# Altium schematic symbol library Diodes.SchLib: 19 symbols (part 1 of 2)
Pins are listed as number, name and electrical type; pins without a type are passive.

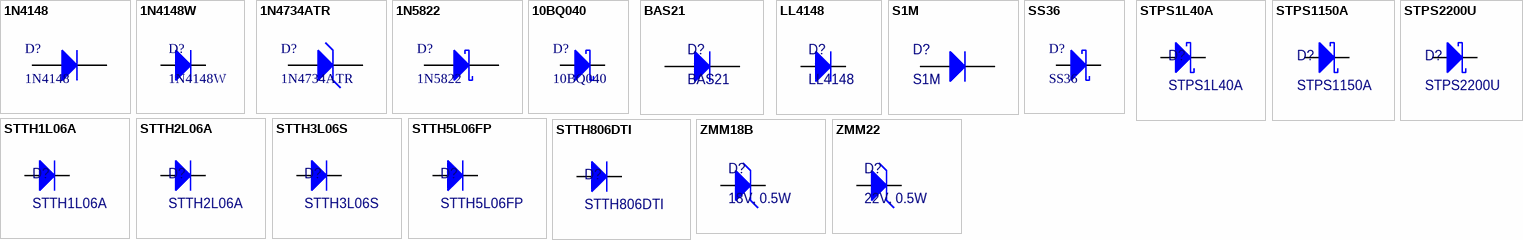
[diagram p0: symbols 1N4148 to ZMM22]

## 1N4148
designator D?
SMALL SGNL DIODE DO35 100V 175C; Manufacturer: ON Semiconductor / Fairchild; Diode Element Material: SILICON; Diode Type: RECTIFIER; Forward Voltage: 1V; Non-rep Pk Forward Current-Max: 2A; Number of Elements: 1; Max Output current: 200mA; Reverse Recovery Time-Max: 0.004us; Surface Mount: No; Case Connection: Isolated; Max Power Dissipation: 500mW; JEDEC-95 Code: DO-35; Qualification Status: Not Qualified; Supplier: Digikey; Supplier Part Number: 1N4148FS-ND; Manufacturer Part Number: 1N4148; RoHS: Yes; Category: Rectifier Diodes; Stock: 182200; Pricing: 1=0.1, 10=0.057, 100=0.0306, 500=0.024, 1000=0.01666, 2000=0.01381, 5000=0.01305, 10000=0.01111, 50000=0.00889 (USD); Pins: 2; Package Shape: Round; Max Operating Temperature: 175°C; Rep Pk Reverse Voltage-Max: 100V; JESD-30 Code: O-XALF-W2; Package Style: LONG FORMMeter; Terminal Form: Wire; Terminal Position: AXIAL; Reach SVHC Compliant: Yes; RoHS Compliant: Yes; ComponentLink1URL: https://datasheet.ciiva.com:443/pdfs/VipMasterIC/IC/ONSM/ONSM-S-A0003590094/ONSM-S-A0003539415-1.pdf?src-supplier=IHS+Markit; ComponentLink1Description: https://datasheet.ciiva.com:443/pdfs/VipMasterIC/IC/ONSM/ONSM-S-A0003590094/ONSM-S-A0003539415-1.pdf?src-supplier=IHS+Markit; ComponentLink2URL: https://datasheet.ciiva.com/27049/743285-27049708.pdf?src-supplier=Jameco; ComponentLink2Description: https://datasheet.ciiva.com/27049/743285-27049708.pdf?src-supplier=Jameco
footprint 1N4148
pins: 1 K, 2 A

## 1N4148W
designator D?
DIODE GEN PURP 75V 250MA SOD123; Manufacturer: Sangdest Microelectronics; Supplier: Digikey; Supplier Part Number: 1655-1N4148WCT-ND; Manufacturer Part Number: 1N4148W; RoHS: No; Category: LDO; Stock: 181231; Pricing: 1=0.13, 10=0.077, 100=0.0474, 500=0.0342, 1000=0.0299 (USD)
footprint SOD-123
pins: 1 K, 2 A

## 1N4734ATR
designator D?
DIODE ZENER 5.6V 1W DO41; Manufacturer: ON Semiconductor / Fairchild; Diode Element Material: SILICON; Package Body Material: Glass; Polarity: Unidirectional; Case Connection: Isolated; Dynamic Impedance-Max: 5R; Number of Elements: 1; Surface Mount: No; Voltage Tol-Max: 5%; Test Current: 45mA; JEDEC-95 Code: DO-41; Qualification Status: Not Qualified; Supplier: Digikey; Supplier Part Number: 1N4734AFSCT-ND; Manufacturer Part Number: 1N4734ATR; RoHS: Yes; Category: Zener Diodes; Stock: 18282; Pricing: 1=0.24, 10=0.145, 100=0.0902, 500=0.06612, 1000=0.05831 (USD); Pins: 2; Package Shape: Round; Min Operating Temperature: -65°C; Max Operating Temperature: 200°C; Diode Type: ZENER; JESD-30 Code: O-LALF-W2; Package Style: LONG FORMMeter; Max Power Dissipation: 1W; Reference Voltage-Nom: 5.6V; Technology: ZENER; Terminal Form: Wire; Terminal Position: AXIAL; Reach SVHC Compliant: Yes; RoHS Compliant: Yes; ComponentLink1URL: https://datasheet.ciiva.com:443/pdfs/VipMasterIC/IC/FAIR/FAIRS30206/FAIRS30206-1.pdf?src-supplier=IHS+Markit; ComponentLink1Description: https://datasheet.ciiva.com:443/pdfs/VipMasterIC/IC/FAIR/FAIRS30206/FAIRS30206-1.pdf?src-supplier=IHS+Markit; ComponentLink2URL: https://datasheet.ciiva.com/15142/getdatasheetpartid-70054-15142360.pdf?src-supplier=Verical; ComponentLink2Description: https://datasheet.ciiva.com/15142/getdatasheetpartid-70054-15142360.pdf?src-supplier=Verical; ComponentLink3URL: https://datasheet.ciiva.com/889/1n4731a-889224.pdf?src-supplier=Digikey; ComponentLink3Description: https://datasheet.ciiva.com/889/1n4731a-889224.pdf?src-supplier=Digikey; ComponentLink4URL: https://datasheet.ciiva.com/889/1n4731a-889225.pdf?src-supplier=Digikey; ComponentLink4Description: https://datasheet.ciiva.com/889/1n4731a-889225.pdf?src-supplier=Digikey; ComponentLink5URL: https://datasheet.ciiva.com/46425/1482758-46425861.pdf?src-supplier=Element14; ComponentLink5Description: https://datasheet.ciiva.com/46425/1482758-46425861.pdf?src-supplier=Element14; ComponentLink6URL: https://datasheet.ciiva.com/8084/1n4730a-8084123.pdf?src-supplier=Avnet; ComponentLink6Description: https://datasheet.ciiva.com/8084/1n4730a-8084123.pdf?src-supplier=Avnet
footprint DO-41
pins: 1 K, 2 A

## 1N5822
designator D?
DIODE SCHOTTKY 40V 3A DO201AD; Manufacturer: STMicroelectronics; Diode Element Material: SILICON; Package Body Material: Plastic; Additional Feature: FREE WHEELING DIODE; Application(s): POWER; Case Connection: Isolated; Diode Type: RECTIFIER; Forward Voltage: 950mV; Non-rep Pk Forward Current-Max: 80A; Number of Elements: 1; Surface Mount: No; JEDEC-95 Code: DO-201AD; Qualification Status: Not Qualified; Supplier: Digikey; Supplier Part Number: 497-11370-1-ND; Manufacturer Part Number: 1N5822; RoHS: Yes; Category: Rectifier Diodes; Stock: 380; Pricing: 1=0.42, 10=0.328, 100=0.1969 (USD); Pins: 2; Package Shape: Round; Terminal Finish: Tin; Max Operating Temperature: 150°C; JESD-609 Code: e3; JESD-30 Code: O-PALF-W2; Number of Phases: 1; Max Output current: 3A; Package Style: LONG FORMMeter; Rep Pk Reverse Voltage-Max: 40V; Technology: SCHOTTKY; Terminal Form: Wire; Terminal Position: AXIAL; RoHS Compliant: Yes; Reach SVHC Compliant: No; ComponentLink1URL: https://datasheet.ciiva.com:443/pdfs/VipMasterIC/IC/SGST/SGSTS14204/SGSTS14204-1.pdf?src-supplier=IHS+Markit; ComponentLink1Description: https://datasheet.ciiva.com:443/pdfs/VipMasterIC/IC/SGST/SGSTS14204/SGSTS14204-1.pdf?src-supplier=IHS+Markit; ComponentLink2URL: https://datasheet.ciiva.com/1177/1689683-1177129.pdf?src-supplier=Element14; ComponentLink2Description: https://datasheet.ciiva.com/1177/1689683-1177129.pdf?src-supplier=Element14; ComponentLink3URL: https://datasheet.ciiva.com/26339/168275-da-01-en-schottky-barrier-rectif-axial-1n5822-26339005.pdf?src-supplier=Conrad; ComponentLink3Description: https://datasheet.ciiva.com/26339/168275-da-01-en-schottky-barrier-rectif-axial-1n5822-26339005.pdf?src-supplier=Conrad; ComponentLink4URL: https://datasheet.ciiva.com/916/cd00001626-916050.pdf?src-supplier=Digikey; ComponentLink4Description: https://datasheet.ciiva.com/916/cd00001626-916050.pdf?src-supplier=Digikey; ComponentLink5URL: https://datasheet.ciiva.com/916/cd00001626-916051.pdf?src-supplier=Digikey; ComponentLink5Description: https://datasheet.ciiva.com/916/cd00001626-916051.pdf?src-supplier=Digikey; ComponentLink6URL: https://datasheet.ciiva.com/16303/cd00001626-16303311.pdf?src-supplier=Future+Electronics; ComponentLink6Description: https://datasheet.ciiva.com/16303/cd00001626-16303311.pdf?src-supplier=Future+Electronics
footprint DO-201AD_STM
pins: 1 K, 2 A

## 10BQ040
designator D?
DIODE SCHOTTKY 40V 1A SMB; Manufacturer: Sangdest Microelectronics; Supplier: Digikey; Supplier Part Number: 1655-10BQ040CT-ND; Manufacturer Part Number: 10BQ040; RoHS: No; Stock: 75601; Pricing: 1=0.33, 10=0.203, 100=0.1274, 500=0.09426, 1000=0.08355 (USD)
footprint DO-214AA-SMB
pins: 1 K, 2 A

## BAS21
designator D?
DIODE STANDARD 200V 200MA SOT233; Manufacturer: Sangdest Microelectronics; Max Power Dissipation: 350mW; Number of Elements: 1; Reverse Recovery Time: 50ns; Supplier: DigiKey; Supplier Part Number: 1655-BAS21CT-ND; Manufacturer Part Number: BAS21; RoHS: Compliant; Category: Rectifier Diodes; Stock: 142559; Pricing: 1=0.21, 10=0.125, 100=0.0776, 500=0.05666, 1000=0.04986 (USD); Country of Origin: Mainland China; Export Control Classification Number (ECCN) Code: EAR99; Harmonized Tariff Schedule (HTS) Code: 8541.10.00.70; Introduction Date: 2003-01-16; Lifecycle Status: Production; Max Output current: 200mA; Number of Terminals: 3; REACH SVHC: Yes; Reverse Standoff Voltage: 200V; ComponentLink1URL: https://datasheet.octopart.com:443/BAS21-SMC-Diode-Solutions-datasheet-145014974.pdf?src-supplier=IHS; ComponentLink1Description: https://datasheet.octopart.com:443/BAS21-SMC-Diode-Solutions-datasheet-145014974.pdf?src-supplier=IHS
footprint SOT-23-3
pins: 1 A, 3 K

## LL4148
designator D?
DIODE STANDARD 100V 200MA SOD80; Manufacturer: onsemi; Manufacturer Lifecycle Status: ACTIVE; Body Material: Glass; Current: 2A; Element Configuration: Single; Forward Voltage: 1V; Max Power Dissipation: 500mW; Number of Elements: 1; Peak Reverse Current: 25nA; Recovery Time: 4ns; Supplier: DigiKey; Supplier Part Number: LL4148FSCT-ND; Manufacturer Part Number: LL4148; RoHS: Compliant; Category: Rectifier Diodes; Stock: 985538; Pricing: 1=0.1, 10=0.05, 100=0.0426, 500=0.0307, 1000=0.02682 (USD); Average Rectified Current: 200mA; China RoHS: Non-Compliant; Contact Plating: Tin; Country of Origin: Mainland China; Export Control Classification Number (ECCN) Code: EAR99; Forward Current: 200mA; Height: 1.5mm; Harmonized Tariff Schedule (HTS) Code: 8541.10.00.70; Introduction Date: 2006-01-13; Lead Free: Lead Free; Length: 3.6mm; Lifecycle Status: Production; Max Forward Surge Current (Ifsm): 2A; Max Operating Temperature: 175°C; Max Output current: 200mA; Max Repetitive Reverse Voltage (Vrrm): 100V; Max Reverse Voltage (DC): 100V; Max Surge Current: 2A; Min Operating Temperature: -55°C; Mounting Technology: Surface Mount; Pins: 2; Number of Terminals: 2; Packaging: Cut Tape; Peak Non-Repetitive Surge Current: 2A; Power Dissipation: 500mW; Radiation Hardening: No; REACH SVHC: Yes; Reverse Recovery Time: 4ns; Reverse Standoff Voltage: 100V; Reverse Voltage: 100V; Schedule B: 8541100070, 8541100070|8541100070, 8541100070|8541100070|8541100070, 8541100070|8541100070|8541100070|8541100070; Voltage: 100V; Weight: 4.535924g; Width: 1.5mm; ComponentLink1URL: https://datasheet.octopart.com:443/LL4148-onsemi-datasheet-158584874.pdf?src-supplier=onsemi; ComponentLink1Description: https://datasheet.octopart.com:443/LL4148-onsemi-datasheet-158584874.pdf?src-supplier=onsemi; ComponentLink2URL: https://datasheet.octopart.com:443/LL4148-ON-Semiconductor-datasheet-85572496.pdf?src-supplier=onsemi; ComponentLink2Description: https://datasheet.octopart.com:443/LL4148-ON-Semiconductor-datasheet-85572496.pdf?src-supplier=onsemi; ComponentLink3URL: https://datasheet.octopart.com:443/LL4148-ON-Semiconductor-datasheet-86697764.pdf?src-supplier=onsemi; ComponentLink3Description: https://datasheet.octopart.com:443/LL4148-ON-Semiconductor-datasheet-86697764.pdf?src-supplier=onsemi; ComponentLink4URL: https://datasheet.octopart.com:443/LL4148-ON-Semiconductor-datasheet-17172799.pdf?src-supplier=element14+APAC; ComponentLink4Description: https://datasheet.octopart.com:443/LL4148-ON-Semiconductor-datasheet-17172799.pdf?src-supplier=element14+APAC; ComponentLink5URL: https://datasheet.octopart.com:443/LL4148-ON-Semiconductor-datasheet-86691521.pdf?src-supplier=element14+APAC; ComponentLink5Description: https://datasheet.octopart.com:443/LL4148-ON-Semiconductor-datasheet-86691521.pdf?src-supplier=element14+APAC; ComponentLink6URL: https://datasheet.octopart.com:443/LL4148-Fairchild-Semiconductor-datasheet-38581097.pdf?src-supplier=element14+APAC; ComponentLink6Description: https://datasheet.octopart.com:443/LL4148-Fairchild-Semiconductor-datasheet-38581097.pdf?src-supplier=element14+APAC; ComponentLink7URL: https://datasheet.octopart.com:443/LL4148-Fairchild-Semiconductor-datasheet-62114946.pdf?src-supplier=element14+APAC; ComponentLink7Description: https://datasheet.octopart.com:443/LL4148-Fairchild-Semiconductor-datasheet-62114946.pdf?src-supplier=element14+APAC; ComponentLink8URL: https://datasheet.octopart.com:443/LL4148-Fairchild-Semiconductor-datasheet-62292353.pdf?src-supplier=element14+APAC; ComponentLink8Description: https://datasheet.octopart.com:443/LL4148-Fairchild-Semiconductor-datasheet-62292353.pdf?src-supplier=element14+APAC; ComponentLink9URL: https://datasheet.octopart.com:443/LL4148.-ON-Semiconductor-datasheet-87455466.pdf?src-supplier=element14+APAC; ComponentLink9Description: https://datasheet.octopart.com:443/LL4148.-ON-Semiconductor-datasheet-87455466.pdf?src-supplier=element14+APAC; ComponentLink10URL: https://datasheet.octopart.com:443/LL4148-ON-Semiconductor-datasheet-100088444.pdf?src-supplier=JRH+Electronics; ComponentLink10Description: https://datasheet.octopart.com:443/LL4148-ON-Semiconductor-datasheet-100088444.pdf?src-supplier=JRH+Electronics; ComponentLink11URL: https://datasheet.octopart.com:443/LL4148-onsemi-datasheet-180961323.pdf?src-supplier=IHS; ComponentLink11Description: https://datasheet.octopart.com:443/LL4148-onsemi-datasheet-180961323.pdf?src-supplier=IHS; ComponentLink12URL: https://datasheet.octopart.com:443/LL4148-Fairchild-Semiconductor-datasheet-182297807.pdf?src-supplier=IHS; ComponentLink12Description: https://datasheet.octopart.com:443/LL4148-Fairchild-Semiconductor-datasheet-182297807.pdf?src-supplier=IHS; ComponentLink13URL: https://datasheet.octopart.com:443/LL4148-Fairchild-datasheet-492438.pdf?src-supplier=Fairchild+Semiconductor; ComponentLink13Description: https://datasheet.octopart.com:443/LL4148-Fairchild-datasheet-492438.pdf?src-supplier=Fairchild+Semiconductor; ComponentLink14URL: https://datasheet.octopart.com:443/LL4148-Fairchild-Semiconductor-datasheet-11045226.pdf?src-supplier=Fairchild+Semiconductor; ComponentLink14Description: https://datasheet.octopart.com:443/LL4148-Fairchild-Semiconductor-datasheet-11045226.pdf?src-supplier=Fairchild+Semiconductor; ComponentLink15URL: https://sigma.octopart.com:443/17344539/technical_drawing/Fairchild-Semiconductor-LL4148.pdf?src-supplier=Fairchild+Semiconductor; ComponentLink15Description: https://sigma.octopart.com:443/17344539/technical_drawing/Fairchild-Semiconductor-LL4148.pdf?src-supplier=Fairchild+Semiconductor; ComponentLink16URL: https://datasheet.octopart.com:443/LL4148-Fairchild-Semiconductor-datasheet-14041796.pdf?src-supplier=iiiC; ComponentLink16Description: https://datasheet.octopart.com:443/LL4148-Fairchild-Semiconductor-datasheet-14041796.pdf?src-supplier=iiiC; ComponentLink17URL: https://datasheet.octopart.com:443/LL4148-Fairchild-Semiconductor-datasheet-10438456.pdf?src-supplier=Jameco; ComponentLink17Description: https://datasheet.octopart.com:443/LL4148-Fairchild-Semiconductor-datasheet-10438456.pdf?src-supplier=Jameco; ComponentLink18URL: https://datasheet.octopart.com:443/LL4148-ON-Semiconductor-datasheet-81454985.pdf?src-supplier=TME; ComponentLink18Description: https://datasheet.octopart.com:443/LL4148-ON-Semiconductor-datasheet-81454985.pdf?src-supplier=TME; ComponentLink19URL: https://datasheet.octopart.com:443/LL4148-Fairchild-Semiconductor-datasheet-62139678.pdf?src-supplier=iodParts+Technologies+Inc.; ComponentLink19Description: https://datasheet.octopart.com:443/LL4148-Fairchild-Semiconductor-datasheet-62139678.pdf?src-supplier=iodParts+Technologies+Inc.; ComponentLink20URL: https://datasheet.octopart.com:443/LL4148-Fairchild-Semiconductor-datasheet-62268912.pdf?src-supplier=Newark; ComponentLink20Description: https://datasheet.octopart.com:443/LL4148-Fairchild-Semiconductor-datasheet-62268912.pdf?src-supplier=Newark; ComponentLink21URL: http://sigma.octopart.com:80/150613095/rohs_statement/ON-Semiconductor-LL4148.pdf?src-supplier=Compliance+Statements; ComponentLink21Description: http://sigma.octopart.com:80/150613095/rohs_statement/ON-Semiconductor-LL4148.pdf?src-supplier=Compliance+Statements; ComponentLink22URL: http://sigma.octopart.com:80/17353531/reach_statement/Fairchild-Semiconductor-LL4148.pdf?src-supplier=Compliance+Statements; ComponentLink22Description: http://sigma.octopart.com:80/17353531/reach_statement/Fairchild-Semiconductor-LL4148.pdf?src-supplier=Compliance+Statements; ComponentLink23URL: http://sigma.octopart.com:80/17353532/materials_sheet/Fairchild-Semiconductor-LL4148.pdf?src-supplier=Compliance+Statements; ComponentLink23Description: http://sigma.octopart.com:80/17353532/materials_sheet/Fairchild-Semiconductor-LL4148.pdf?src-supplier=Compliance+Statements; ComponentLink24URL: http://sigma.octopart.com:80/33193297/reach_statement/Fairchild-Semiconductor-LL4148.pdf?src-supplier=Compliance+Statements; ComponentLink24Description: http://sigma.octopart.com:80/33193297/reach_statement/Fairchild-Semiconductor-LL4148.pdf?src-supplier=Compliance+Statements; ComponentLink25URL: http://sigma.octopart.com:80/33193298/materials_sheet/Fairchild-Semiconductor-LL4148.pdf?src-supplier=Compliance+Statements; ComponentLink25Description: http://sigma.octopart.com:80/33193298/materials_sheet/Fairchild-Semiconductor-LL4148.pdf?src-supplier=Compliance+Statements; ComponentLink26URL: http://sigma.octopart.com:80/reach_statement/ON-Semiconductor-company-79.pdf?src-supplier=Compliance+Statements; ComponentLink26Description: http://sigma.octopart.com:80/reach_statement/ON-Semiconductor-company-79.pdf?src-supplier=Compliance+Statements; ComponentLink27URL: http://sigma.octopart.com:80/rohs_statement/Fairchild-Semiconductor-company-11.pdf?src-supplier=Compliance+Statements; ComponentLink27Description: http://sigma.octopart.com:80/rohs_statement/Fairchild-Semiconductor-company-11.pdf?src-supplier=Compliance+Statements; ComponentLink28URL: http://sigma.octopart.com:80/rohs_statement/Fairchild-Semiconductor-company-10.pdf?src-supplier=Compliance+Statements; ComponentLink28Description: http://sigma.octopart.com:80/rohs_statement/Fairchild-Semiconductor-company-10.pdf?src-supplier=Compliance+Statements; ComponentLink29URL: http://sigma.octopart.com:80/reach_statement/Fairchild-Semiconductor-company-9.pdf?src-supplier=Compliance+Statements; ComponentLink29Description: http://sigma.octopart.com:80/reach_statement/Fairchild-Semiconductor-company-9.pdf?src-supplier=Compliance+Statements; ComponentLink30URL: https://octopart.com:443/opatz8j6/c1?t=Xpxkz2NEgx4OvPA3Qtyl6iXlCaTO6Dx006tOayOQh8UpEakiw79qybXVjaLUkLdsDcwAhzZWzx4hsVWPp7VVSRUS2jTBS-XM3DH5FBRSfylGBMniz7AQVr_Q7R3Jx2l4jaOKMfh2pC0Sl6mKcG5iyxqYHFtscphSICSNicIjKzxGRZvfLlKmxXOW-H294Yk1x_cmMiAGYKmeAx8dFNplOshOoCdbbUeOktIk3E71qjxJoHCVKROfEgPEuVAOotDk7D3GLFhb0ONIF7lvGKCN4-I4pNAMnSjDC8dGdI9FUWqMmgWXOVngnCQl4h9fXjZD62hPSik3c7L-oytIjEzlRkn8LqxphGg_pA&src-supplier=Compliance+Statements; ComponentLink30Description: https://octopart.com:443/opatz8j6/c1?t=Xpxkz2NEgx4OvPA3Qtyl6iXlCaTO6Dx006tOayOQh8UpEakiw79qybXVjaLUkLdsDcwAhzZWzx4hsVWPp7VVSRUS2jTBS-XM3DH5FBRSfylGBMniz7AQVr_Q7R3Jx2l4jaOKMfh2pC0Sl6mKcG5iyxqYHFtscphSICSNicIjKzxGRZvfLlKmxXOW-H294Yk1x_cmMiAGYKmeAx8dFNplOshOoCdbbUeOktIk3E71qjxJoHCVKROfEgPEuVAOotDk7D3GLFhb0ONIF7lvGKCN4-I4pNAMnSjDC8dGdI9FUWqMmgWXOVngnCQl4h9fXjZD62hPSik3c7L-oytIjEzlRkn8LqxphGg_pA&src-supplier=Compliance+Statements; ComponentLink31URL: https://octopart.com:443/opatz8j6/c1?t=tFIoAttQBStIyOR12NpmeKiMmTe5SP8-8Xq4lkvK6p_Vq1o_9olfxB33t-2EuHG15KFq_ggm6QlYiEY221wMJCkD3umFHElGgHs0hHZS39-Qp2ZZRsupO9Hr1N3PAdDpe750FQU0XgmhgEwHMZn8Z3k5HuoWmRNpRKEnkRFrE0IXKj6CmvQTfQmsENA-D1Qdyo8uqC6uxEsjmMW0Z_q8gXSjLM0_5fRz8eR6DFUS172wwd2S-tXcH_fY0j82uyAjy2XTX7JZakjtcfcCauvyxulJf2m4Pvazm22R5r_wpz6eRhj7z7PQ5lP7HSMDztpbFG7UgPSC_-QkyDNCFsHVILyjtZbhab6GOQU&src-supplier=Compliance+Statements; ComponentLink31Description: https://octopart.com:443/opatz8j6/c1?t=tFIoAttQBStIyOR12NpmeKiMmTe5SP8-8Xq4lkvK6p_Vq1o_9olfxB33t-2EuHG15KFq_ggm6QlYiEY221wMJCkD3umFHElGgHs0hHZS39-Qp2ZZRsupO9Hr1N3PAdDpe750FQU0XgmhgEwHMZn8Z3k5HuoWmRNpRKEnkRFrE0IXKj6CmvQTfQmsENA-D1Qdyo8uqC6uxEsjmMW0Z_q8gXSjLM0_5fRz8eR6DFUS172wwd2S-tXcH_fY0j82uyAjy2XTX7JZakjtcfcCauvyxulJf2m4Pvazm22R5r_wpz6eRhj7z7PQ5lP7HSMDztpbFG7UgPSC_-QkyDNCFsHVILyjtZbhab6GOQU&src-supplier=Compliance+Statements
footprint SOD-80-DIODE
pins: 1 K, 2 A

## S1M
designator D?
DIODE STANDARD 1000V 1A DO214AC; Manufacturer: onsemi; Manufacturer Lifecycle Status: ACTIVE; Value: 6.6pF; Element Configuration: Single; Forward Voltage: 1.1V; Max Forward Surge Current (Ifsm): 30A; Max Junction Temperature (Tj): 150°C; Max Power Dissipation: 1.4W; Max Repetitive Reverse Voltage (Vrrm): 1kV; Max Surge Current: 40A; Number of Elements: 1; Peak Reverse Current: 1µA; Recovery Time: 1.8µs; Supplier: DigiKey; Supplier Part Number: S1MFSCT-ND; Manufacturer Part Number: S1M; RoHS: Compliant; Category: Rectifier Diodes; Stock: 295300; Pricing: 1=0.23, 10=0.156, 100=0.1216, 500=0.08984, 1000=0.077, 2000=0.07091 (USD); Average Rectified Current: 1A; Case/Package: SMA; China RoHS: Non-Compliant; Contact Plating: Tin; Country of Origin: Mainland China; Current: 1A; Current Rating: 1A; Export Control Classification Number (ECCN) Code: EAR99; Forward Current: 1A; Height: 2.5mm; Harmonized Tariff Schedule (HTS) Code: 8541.10.00.80; Introduction Date: 1998-06-01; Lead Free: Lead Free; Length: 4.75mm; Lifecycle Status: Production; Max Operating Temperature: 150°C; Max Output current: 1A; Max Reverse Voltage (DC): 1kV; Min Operating Temperature: -55°C; Mounting Technology: Surface Mount; Pins: 2; Number of Terminals: 2; Output Current: 1A; Packaging: Cut Tape; Peak Non-Repetitive Surge Current: 30A; Polarity: Standard; Power Dissipation: 1.4W; Radiation Hardening: No; REACH SVHC: No; Reverse Recovery Time: 1.8µs; Reverse Standoff Voltage: 1kV; Reverse Voltage: 1kV; Schedule B: 8541100080, 8541100080|8541100080, 8541100080|8541100080|8541100080, 8541100080|8541100080|8541100080|8541100080; Termination: SMD/SMT; Voltage: 1kV; Voltage Rating (DC): 1kV; Width: 5.28mm; ComponentLink1URL: https://datasheet.octopart.com:443/S1M-ON-Semiconductor-datasheet-137256442.pdf?src-supplier=Upverter; ComponentLink1Description: https://datasheet.octopart.com:443/S1M-ON-Semiconductor-datasheet-137256442.pdf?src-supplier=Upverter; ComponentLink2URL: https://sigma.octopart.com:443/138897407/technical_drawing/ON-Semiconductor-S1M.pdf?src-supplier=Upverter; ComponentLink2Description: https://sigma.octopart.com:443/138897407/technical_drawing/ON-Semiconductor-S1M.pdf?src-supplier=Upverter; ComponentLink3URL: https://datasheet.octopart.com:443/S1M-ON-Semiconductor-datasheet-155242966.pdf?src-supplier=onsemi; ComponentLink3Description: https://datasheet.octopart.com:443/S1M-ON-Semiconductor-datasheet-155242966.pdf?src-supplier=onsemi; ComponentLink4URL: https://datasheet.octopart.com:443/S1M-ON-Semiconductor-datasheet-81638276.pdf?src-supplier=onsemi; ComponentLink4Description: https://datasheet.octopart.com:443/S1M-ON-Semiconductor-datasheet-81638276.pdf?src-supplier=onsemi; ComponentLink5URL: https://datasheet.octopart.com:443/S1M-ON-Semiconductor-datasheet-86698603.pdf?src-supplier=onsemi; ComponentLink5Description: https://datasheet.octopart.com:443/S1M-ON-Semiconductor-datasheet-86698603.pdf?src-supplier=onsemi; ComponentLink6URL: https://datasheet.octopart.com:443/S1M-ON-Semiconductor-datasheet-21199496.pdf?src-supplier=Future+Electronics; ComponentLink6Description: https://datasheet.octopart.com:443/S1M-ON-Semiconductor-datasheet-21199496.pdf?src-supplier=Future+Electronics; ComponentLink7URL: https://datasheet.octopart.com:443/S1M-Fairchild-Semiconductor-datasheet-42431463.pdf?src-supplier=IHS; ComponentLink7Description: https://datasheet.octopart.com:443/S1M-Fairchild-Semiconductor-datasheet-42431463.pdf?src-supplier=IHS; ComponentLink8URL: https://datasheet.octopart.com:443/S1M-onsemi-datasheet-180969538.pdf?src-supplier=IHS; ComponentLink8Description: https://datasheet.octopart.com:443/S1M-onsemi-datasheet-180969538.pdf?src-supplier=IHS; ComponentLink9URL: https://datasheet.octopart.com:443/S1M-onsemi-datasheet-181265944.pdf?src-supplier=IHS; ComponentLink9Description: https://datasheet.octopart.com:443/S1M-onsemi-datasheet-181265944.pdf?src-supplier=IHS; ComponentLink10URL: https://datasheet.octopart.com:443/S1M-ON-Semiconductor-datasheet-86692978.pdf?src-supplier=Farnell; ComponentLink10Description: https://datasheet.octopart.com:443/S1M-ON-Semiconductor-datasheet-86692978.pdf?src-supplier=Farnell; ComponentLink11URL: https://datasheet.octopart.com:443/S1M-Fairchild-Semiconductor-datasheet-68341913.pdf?src-supplier=Farnell; ComponentLink11Description: https://datasheet.octopart.com:443/S1M-Fairchild-Semiconductor-datasheet-68341913.pdf?src-supplier=Farnell; ComponentLink12URL: https://datasheet.octopart.com:443/S1M.-Fairchild-Semiconductor-datasheet-2355.pdf?src-supplier=Fairchild+Semiconductor; ComponentLink12Description: https://datasheet.octopart.com:443/S1M.-Fairchild-Semiconductor-datasheet-2355.pdf?src-supplier=Fairchild+Semiconductor; ComponentLink13URL: https://sigma.octopart.com:443/17345279/technical_drawing/Fairchild-Semiconductor-S1M..pdf?src-supplier=Fairchild+Semiconductor; ComponentLink13Description: https://sigma.octopart.com:443/17345279/technical_drawing/Fairchild-Semiconductor-S1M..pdf?src-supplier=Fairchild+Semiconductor; ComponentLink14URL: https://datasheet.octopart.com:443/S1M-Fairchild-Semiconductor-datasheet-67132006.pdf?src-supplier=element14+APAC; ComponentLink14Description: https://datasheet.octopart.com:443/S1M-Fairchild-Semiconductor-datasheet-67132006.pdf?src-supplier=element14+APAC; ComponentLink15URL: https://datasheet.octopart.com:443/S1M-Fairchild-Semiconductor-datasheet-68457125.pdf?src-supplier=element14+APAC; ComponentLink15Description: https://datasheet.octopart.com:443/S1M-Fairchild-Semiconductor-datasheet-68457125.pdf?src-supplier=element14+APAC; ComponentLink16URL: https://datasheet.octopart.com:443/S1M.-Fairchild-Semiconductor-datasheet-8621163.pdf?src-supplier=_legacy+Avnet; ComponentLink16Description: https://datasheet.octopart.com:443/S1M.-Fairchild-Semiconductor-datasheet-8621163.pdf?src-supplier=_legacy+Avnet; ComponentLink17URL: https://datasheet.octopart.com:443/S1M.-Fairchild-Semiconductor-datasheet-17703433.pdf?src-supplier=Jameco; ComponentLink17Description: https://datasheet.octopart.com:443/S1M.-Fairchild-Semiconductor-datasheet-17703433.pdf?src-supplier=Jameco; ComponentLink18URL: https://datasheet.octopart.com:443/S1M-ON-Semiconductor-datasheet-81455056.pdf?src-supplier=TME; ComponentLink18Description: https://datasheet.octopart.com:443/S1M-ON-Semiconductor-datasheet-81455056.pdf?src-supplier=TME; ComponentLink19URL: https://datasheet.octopart.com:443/S1M-Fairchild-Semiconductor-datasheet-67356299.pdf?src-supplier=Newark; ComponentLink19Description: https://datasheet.octopart.com:443/S1M-Fairchild-Semiconductor-datasheet-67356299.pdf?src-supplier=Newark; ComponentLink20URL: https://datasheet.octopart.com:443/S1M-Fairchild-Semiconductor-datasheet-67650218.pdf?src-supplier=Newark; ComponentLink20Description: https://datasheet.octopart.com:443/S1M-Fairchild-Semiconductor-datasheet-67650218.pdf?src-supplier=Newark; ComponentLink21URL: http://sigma.octopart.com:80/150631121/rohs_statement/ON-Semiconductor-S1M.pdf?src-supplier=Compliance+Statements; ComponentLink21Description: http://sigma.octopart.com:80/150631121/rohs_statement/ON-Semiconductor-S1M.pdf?src-supplier=Compliance+Statements; ComponentLink22URL: http://sigma.octopart.com:80/17356692/reach_statement/Fairchild-Semiconductor-S1M..pdf?src-supplier=Compliance+Statements; ComponentLink22Description: http://sigma.octopart.com:80/17356692/reach_statement/Fairchild-Semiconductor-S1M..pdf?src-supplier=Compliance+Statements; ComponentLink23URL: http://sigma.octopart.com:80/17356693/materials_sheet/Fairchild-Semiconductor-S1M..pdf?src-supplier=Compliance+Statements; ComponentLink23Description: http://sigma.octopart.com:80/17356693/materials_sheet/Fairchild-Semiconductor-S1M..pdf?src-supplier=Compliance+Statements; ComponentLink24URL: http://sigma.octopart.com:80/33320135/reach_statement/Fairchild-Semiconductor-S1M..pdf?src-supplier=Compliance+Statements; ComponentLink24Description: http://sigma.octopart.com:80/33320135/reach_statement/Fairchild-Semiconductor-S1M..pdf?src-supplier=Compliance+Statements; ComponentLink25URL: http://sigma.octopart.com:80/33320136/materials_sheet/Fairchild-Semiconductor-S1M..pdf?src-supplier=Compliance+Statements; ComponentLink25Description: http://sigma.octopart.com:80/33320136/materials_sheet/Fairchild-Semiconductor-S1M..pdf?src-supplier=Compliance+Statements; ComponentLink26URL: http://sigma.octopart.com:80/reach_statement/ON-Semiconductor-company-79.pdf?src-supplier=Compliance+Statements; ComponentLink26Description: http://sigma.octopart.com:80/reach_statement/ON-Semiconductor-company-79.pdf?src-supplier=Compliance+Statements; ComponentLink27URL: http://sigma.octopart.com:80/rohs_statement/Fairchild-Semiconductor-company-11.pdf?src-supplier=Compliance+Statements; ComponentLink27Description: http://sigma.octopart.com:80/rohs_statement/Fairchild-Semiconductor-company-11.pdf?src-supplier=Compliance+Statements; ComponentLink28URL: http://sigma.octopart.com:80/rohs_statement/Fairchild-Semiconductor-company-10.pdf?src-supplier=Compliance+Statements; ComponentLink28Description: http://sigma.octopart.com:80/rohs_statement/Fairchild-Semiconductor-company-10.pdf?src-supplier=Compliance+Statements; ComponentLink29URL: http://sigma.octopart.com:80/reach_statement/Fairchild-Semiconductor-company-9.pdf?src-supplier=Compliance+Statements; ComponentLink29Description: http://sigma.octopart.com:80/reach_statement/Fairchild-Semiconductor-company-9.pdf?src-supplier=Compliance+Statements; ComponentLink30URL: https://octopart.com:443/opatz8j6/c1?t=n0SYjiZlka3r_Whlk6gXIPX58mX80-n1vomPl2TG4z1fmHuDBzJKwyqg0bRS_4_XgLdcmSYjtJgP_S5mZQILugFSHa93LL7cl5mwZrLdnYtNflzAqzuffqGNZZyCt7vmMSprHK16RecS2jkpkmbcKzWpRC-zUDtILVzj4gQyF_6qaHjtw7EcDuvb_Pqugyx8-8PKuYTRhJBhClgZk4_j75mz1q3ION-T6ibt9jV_FR2Qv5awSqFahmOuSekWtuxMqhRyD7MQcT7sPZCY191pJxk_FLAcfSSI_usOZnCXK2S15LESivvIV5SYtc3Ge4IvssPd_cTjsfGelDwlt0s_lh60Q-SArnY&src-supplier=Compliance+Statements; ComponentLink30Description: https://octopart.com:443/opatz8j6/c1?t=n0SYjiZlka3r_Whlk6gXIPX58mX80-n1vomPl2TG4z1fmHuDBzJKwyqg0bRS_4_XgLdcmSYjtJgP_S5mZQILugFSHa93LL7cl5mwZrLdnYtNflzAqzuffqGNZZyCt7vmMSprHK16RecS2jkpkmbcKzWpRC-zUDtILVzj4gQyF_6qaHjtw7EcDuvb_Pqugyx8-8PKuYTRhJBhClgZk4_j75mz1q3ION-T6ibt9jV_FR2Qv5awSqFahmOuSekWtuxMqhRyD7MQcT7sPZCY191pJxk_FLAcfSSI_usOZnCXK2S15LESivvIV5SYtc3Ge4IvssPd_cTjsfGelDwlt0s_lh60Q-SArnY&src-supplier=Compliance+Statements; ComponentLink31URL: https://octopart.com:443/opatz8j6/c1?t=9fN0xKxbvStzNDh-gT9V40Na1GFOKEqKEBKH0IzsOCdv-WrCDdU7NVt0a5jZpiM1-aUJRxbFJKQDoYXMAClQF-f-1JqdenA_zdjQropmCM7beD1ITlapi5La6F33tE-IyjPnPcQIRL5uGwYRF9lpX15cfc3_OeTxqVXYipX20js4p8k2WjlpPeTkKjpvacNtXs9clp1R-cp7RgURPYMTP6YYwA3pmboRfav4WWRbmUlnCD1W-zMoPXKmI0MdEDtAmP_dGOGCyP1r-vjGLjO6lhbJ5P6FsJbgS3Y09FlgP2FWqkGjad36MZBYWWMK04h6aXLJYVEO4CTOUJN6AMYU8J3gUKidxQ&src-supplier=Compliance+Statements; ComponentLink31Description: https://octopart.com:443/opatz8j6/c1?t=9fN0xKxbvStzNDh-gT9V40Na1GFOKEqKEBKH0IzsOCdv-WrCDdU7NVt0a5jZpiM1-aUJRxbFJKQDoYXMAClQF-f-1JqdenA_zdjQropmCM7beD1ITlapi5La6F33tE-IyjPnPcQIRL5uGwYRF9lpX15cfc3_OeTxqVXYipX20js4p8k2WjlpPeTkKjpvacNtXs9clp1R-cp7RgURPYMTP6YYwA3pmboRfav4WWRbmUlnCD1W-zMoPXKmI0MdEDtAmP_dGOGCyP1r-vjGLjO6lhbJ5P6FsJbgS3Y09FlgP2FWqkGjad36MZBYWWMK04h6aXLJYVEO4CTOUJN6AMYU8J3gUKidxQ&src-supplier=Compliance+Statements
footprint SMA
pins: 1 K, 2 A

## SS36
designator D?
DIODE SCHOTTKY 60V 3A DO214AB; Manufacturer: ON Semiconductor / Fairchild; Diode Element Material: SILICON; Package Body Material: Plastic; Application(s): GENERAL PURPOSE; Diode Type: RECTIFIER; Forward Voltage: 750mV; Non-rep Pk Forward Current-Max: 100A; Number of Elements: 1; Max Power Dissipation: 2.27W; JEDEC-95 Code: DO-214AB; Qualification Status: Not Qualified; Supplier: Digikey; Supplier Part Number: SS36FSCT-ND; Manufacturer Part Number: SS36; RoHS: Yes; Category: Schottky Diodes; Stock: 9039; Pricing: 1=0.59, 10=0.5, 100=0.4039, 500=0.32028, 1000=0.28286 (USD); Pins: 2; Package Shape: Rectangular; Terminal Finish: Tin; Min Operating Temperature: -55°C; Max Operating Temperature: 150°C; JESD-609 Code: e3; JESD-30 Code: R-PDSO-C2; Moisture Sensitivity Level: 1; Number of Phases: 1; Max Output current: 3A; Package Style: SMALL OUTLINEMeter; Rep Pk Reverse Voltage-Max: 60V; Surface Mount: Yes; Technology: SCHOTTKY; Terminal Form: C BEND; Terminal Position: DUAL; RoHS Compliant: Yes; Reach SVHC Compliant: No; ComponentLink1URL: https://datasheet.ciiva.com:443/pdfs/VipMasterIC/IC/ONSM/ONSM-S-A0006325861/ONSM-S-A0006325861-1.pdf?src-supplier=IHS+Markit; ComponentLink1Description: https://datasheet.ciiva.com:443/pdfs/VipMasterIC/IC/ONSM/ONSM-S-A0006325861/ONSM-S-A0006325861-1.pdf?src-supplier=IHS+Markit; ComponentLink2URL: https://datasheet.ciiva.com/4714/ss36-197193-4714610.pdf?src-supplier=Mouser; ComponentLink2Description: https://datasheet.ciiva.com/4714/ss36-197193-4714610.pdf?src-supplier=Mouser; ComponentLink3URL: https://datasheet.ciiva.com/16889/ss36-16889545.pdf?src-supplier=Future+Electronics; ComponentLink3Description: https://datasheet.ciiva.com/16889/ss36-16889545.pdf?src-supplier=Future+Electronics; ComponentLink4URL: https://datasheet.ciiva.com/920/ss34-920433.pdf?src-supplier=Digikey; ComponentLink4Description: https://datasheet.ciiva.com/920/ss34-920433.pdf?src-supplier=Digikey; ComponentLink5URL: https://datasheet.ciiva.com/920/ss34-920434.pdf?src-supplier=Digikey; ComponentLink5Description: https://datasheet.ciiva.com/920/ss34-920434.pdf?src-supplier=Digikey; ComponentLink6URL: https://datasheet.ciiva.com/920/ss34-920435.pdf?src-supplier=Digikey; ComponentLink6Description: https://datasheet.ciiva.com/920/ss34-920435.pdf?src-supplier=Digikey
footprint DO-214AB
pins: 1 K, 2 A

## STPS1L40A
designator D?
DIODE SCHOTTKY 40V 1A DO214AC; Manufacturer: STMicroelectronics; Element Configuration: Single; Forward Voltage: 630mV; Max Forward Surge Current (Ifsm): 60A; Max Junction Temperature (Tj): 175°C; Max Reverse Leakage Current: 35µA; Number of Elements: 1; Peak Non-Repetitive Surge Current: 50A; Polarity: Standard; Supplier: DigiKey; Supplier Part Number: 497-3753-1-ND; Manufacturer Part Number: STPS1L40A; RoHS: Compliant; Category: Schottky Diodes; Stock: 10115; Pricing: 1=0.35, 10=0.215, 100=0.1573, 500=0.11722, 1000=0.09616, 2000=0.09305 (USD); Average Rectified Current: 1A; Case/Package: SMA; China RoHS: Non-Compliant; Contact Plating: Tin; Country of Origin: Mainland China; Current Rating: 1A; Export Control Classification Number (ECCN) Code: EAR99; Forward Current: 1A; Height: 2.45mm; Harmonized Tariff Schedule (HTS) Code: 8541.10.00.80; Introduction Date: 1980-01-04; Lead Free: Lead Free; Length: 4.6mm; Lifecycle Status: Production; Max Operating Temperature: 150°C; Max Output current: 1A; Max Repetitive Reverse Voltage (Vrrm): 40V; Max Reverse Voltage (DC): 40V; Max Surge Current: 60A; Min Operating Temperature: -65°C; Mounting Technology: Surface Mount; Pins: 2; Number of Terminals: 2; Output Current: 1A; Packaging: Tape and Reel; Peak Reverse Current: 35µA; Radiation Hardening: No; REACH SVHC: No; Reverse Standoff Voltage: 40V; Schedule B: 8541100080, 8541100080|8541100080|8541100080|8541100080|8541100080; Termination: SMD/SMT; Voltage Rating (DC): 40V; Width: 2.95mm; ComponentLink1URL: https://datasheet.octopart.com:443/STPS1L40A-STMicroelectronics-datasheet-8130128.pdf?src-supplier=element14+APAC; ComponentLink1Description: https://datasheet.octopart.com:443/STPS1L40A-STMicroelectronics-datasheet-8130128.pdf?src-supplier=element14+APAC; ComponentLink2URL: https://datasheet.octopart.com:443/STPS1L40A-STMicroelectronics-datasheet-12555403.pdf?src-supplier=TME; ComponentLink2Description: https://datasheet.octopart.com:443/STPS1L40A-STMicroelectronics-datasheet-12555403.pdf?src-supplier=TME; ComponentLink3URL: https://datasheet.octopart.com:443/STPS1L40A-STMicroelectronics-datasheet-67360113.pdf?src-supplier=Future+Electronics; ComponentLink3Description: https://datasheet.octopart.com:443/STPS1L40A-STMicroelectronics-datasheet-67360113.pdf?src-supplier=Future+Electronics; ComponentLink4URL: https://datasheet.octopart.com:443/STPS1L40A-STMicroelectronics-datasheet-56319.pdf?src-supplier=Mouser; ComponentLink4Description: https://datasheet.octopart.com:443/STPS1L40A-STMicroelectronics-datasheet-56319.pdf?src-supplier=Mouser; ComponentLink5URL: https://datasheet.octopart.com:443/STPS1L40A-STMicroelectronics-datasheet-14054142.pdf?src-supplier=iiiC; ComponentLink5Description: https://datasheet.octopart.com:443/STPS1L40A-STMicroelectronics-datasheet-14054142.pdf?src-supplier=iiiC
footprint SMA
pins: 1 K, 2 A

## STPS1150A
designator D?
DIODE SCHOTTKY 150V 1A SMA; Manufacturer: STMicroelectronics; Element Configuration: Single; Forward Current: 15A; Forward Voltage: 670mV; Max Forward Surge Current (Ifsm): 50A; Max Junction Temperature (Tj): 175°C; Max Reverse Leakage Current: 1µA; Number of Elements: 1; Peak Non-Repetitive Surge Current: 75A; Polarity: Standard; Supplier: DigiKey; Supplier Part Number: 497-7545-1-ND; Manufacturer Part Number: STPS1150A; RoHS: Compliant; Category: Schottky Diodes; Stock: 42987; Pricing: 1=0.4, 10=0.245, 100=0.1953, 500=0.14652, 1000=0.12693, 2000=0.11749 (USD); Average Rectified Current: 1A; Case/Package: SMA; China RoHS: Non-Compliant; Contact Plating: Tin; Current Rating: 1A; Height: 2.65mm; Lead Free: Lead Free; Length: 4.6mm; Lifecycle Status: Production; Max Operating Temperature: 175°C; Max Output current: 1A; Max Repetitive Reverse Voltage (Vrrm): 150V; Max Reverse Voltage (DC): 150V; Max Surge Current: 50A; Min Operating Temperature: -65°C; Mounting Technology: Surface Mount; Pins: 2; Number of Terminals: 2; Output Current: 1A; Packaging: Tape and Reel; Peak Reverse Current: 1µA; Radiation Hardening: No; REACH SVHC: No; Reverse Standoff Voltage: 150V; Schedule B: 8541100080, 8541100080|8541100080|8541100080|8541100080|8541100080; Voltage Rating (DC): 150V; Width: 2.95mm; ComponentLink1URL: https://datasheet.octopart.com:443/STPS1150A-STMicroelectronics-datasheet-27708597.pdf?src-supplier=Future+Electronics; ComponentLink1Description: https://datasheet.octopart.com:443/STPS1150A-STMicroelectronics-datasheet-27708597.pdf?src-supplier=Future+Electronics; ComponentLink2URL: https://datasheet.octopart.com:443/STPS1150A-STMicroelectronics-datasheet-10542425.pdf?src-supplier=Newark; ComponentLink2Description: https://datasheet.octopart.com:443/STPS1150A-STMicroelectronics-datasheet-10542425.pdf?src-supplier=Newark; ComponentLink3URL: https://datasheet.octopart.com:443/STPS1150A-STMicroelectronics-datasheet-140377099.pdf?src-supplier=Newark; ComponentLink3Description: https://datasheet.octopart.com:443/STPS1150A-STMicroelectronics-datasheet-140377099.pdf?src-supplier=Newark; ComponentLink4URL: https://datasheet.octopart.com:443/STPS1150A-STMicroelectronics-datasheet-22975683.pdf?src-supplier=Farnell; ComponentLink4Description: https://datasheet.octopart.com:443/STPS1150A-STMicroelectronics-datasheet-22975683.pdf?src-supplier=Farnell; ComponentLink5URL: https://datasheet.octopart.com:443/STPS1150A-STMicroelectronics-datasheet-14054967.pdf?src-supplier=iiiC; ComponentLink5Description: https://datasheet.octopart.com:443/STPS1150A-STMicroelectronics-datasheet-14054967.pdf?src-supplier=iiiC; ComponentLink6URL: https://datasheet.octopart.com:443/STPS1150A-STMicroelectronics-datasheet-5321440.pdf?src-supplier=Nu+Horizons; ComponentLink6Description: https://datasheet.octopart.com:443/STPS1150A-STMicroelectronics-datasheet-5321440.pdf?src-supplier=Nu+Horizons; ComponentLink7URL: https://datasheet.octopart.com:443/STPS1150A-STMicroelectronics-datasheet-23158.pdf?src-supplier=Mouser; ComponentLink7Description: https://datasheet.octopart.com:443/STPS1150A-STMicroelectronics-datasheet-23158.pdf?src-supplier=Mouser; ComponentLink8URL: https://datasheet.octopart.com:443/STPS1150A-STMicroelectronics-datasheet-145393.pdf?src-supplier=DigiKey; ComponentLink8Description: https://datasheet.octopart.com:443/STPS1150A-STMicroelectronics-datasheet-145393.pdf?src-supplier=DigiKey
footprint SMA
pins: 1 K, 2 A

## STPS2200U
designator D?
DIODE SCHOTTKY 200V 2A SMB; Manufacturer: STMicroelectronics; Element Configuration: Single; Forward Voltage: 800mV; Max Forward Surge Current (Ifsm): 100A; Max Junction Temperature (Tj): 175°C; Max Reverse Leakage Current: 2.5mA; Number of Elements: 1; Peak Non-Repetitive Surge Current: 180A; Peak Reverse Current: 5µA; Supplier: DigiKey; Supplier Part Number: 497-13717-1-ND; Manufacturer Part Number: STPS2200U; RoHS: Compliant; Category: Schottky Diodes; Stock: 5423; Pricing: 1=0.79, 10=0.492, 100=0.3171, 500=0.24136, 1000=0.21694 (USD); Average Rectified Current: 2A; Case/Package: SMB; China RoHS: Non-Compliant; Country of Origin: Mainland China; Export Control Classification Number (ECCN) Code: EAR99; Forward Current: 2A; Height: 2.65mm; Harmonized Tariff Schedule (HTS) Code: 8541.10.00.80; Introduction Date: 2013-04-11; Lead Free: Lead Free; Length: 4.6mm; Lifecycle Status: Production; Max Operating Temperature: 175°C; Max Output current: 2A; Max Repetitive Reverse Voltage (Vrrm): 200V; Max Reverse Voltage (DC): 200V; Max Surge Current: 100A; Min Operating Temperature: -40°C; Mounting Technology: Surface Mount; Pins: 2; Number of Terminals: 2; Packaging: Tape and Reel; Radiation Hardening: No; REACH SVHC: No; Reverse Standoff Voltage: 200V; Schedule B: 8541100080, 8541100080|8541100080|8541100080|8541100080|8541100080; Width: 3.95mm; ComponentLink1URL: https://datasheet.octopart.com:443/STPS2200U-STMicroelectronics-datasheet-15981972.pdf?src-supplier=TME; ComponentLink1Description: https://datasheet.octopart.com:443/STPS2200U-STMicroelectronics-datasheet-15981972.pdf?src-supplier=TME
footprint SMB
pins: 1 K, 2 A

## STTH1L06A
designator D?
DIODE STANDARD 600V 1A SMA; Manufacturer: STMicroelectronics; Element Configuration: Single; Forward Voltage: 1.05V; Max Forward Surge Current (Ifsm): 20A; Max Junction Temperature (Tj): 175°C; Number of Elements: 1; Peak Reverse Current: 1µA; Recovery Time: 80ns; Supplier: DigiKey; Supplier Part Number: 497-3241-1-ND; Manufacturer Part Number: STTH1L06A; RoHS: Compliant; Category: Rectifier Diodes; Stock: 25378; Pricing: 1=0.2, 10=0.133, 100=0.1241, 500=0.11528, 1000=0.10642 (USD); Average Rectified Current: 1A; Case/Package: SMA; China RoHS: Non-Compliant; Contact Plating: Tin; Current Rating: 1A; Forward Current: 1A; Height: 2.65mm; Lead Free: Lead Free; Length: 4.6mm; Lifecycle Status: Production; Max Operating Temperature: 175°C; Max Output current: 1A; Max Repetitive Reverse Voltage (Vrrm): 600V; Max Reverse Voltage (DC): 600V; Max Surge Current: 20A; Min Operating Temperature: -65°C; Mounting Technology: Surface Mount; Pins: 2; Number of Terminals: 2; Output Current: 1A; Packaging: Tape and Reel; Peak Non-Repetitive Surge Current: 20A; Polarity: Standard; Radiation Hardening: No; REACH SVHC: No; Reverse Recovery Time: 80ns; Reverse Standoff Voltage: 600V; Reverse Voltage: 600V; Schedule B: 8541100080, 8541100080|8541100080|8541100080|8541100080|8541100080; Voltage Rating (DC): 600V; Width: 2.95mm; ComponentLink1URL: https://datasheet.octopart.com:443/STTH1L06A-STMicroelectronics-datasheet-10836133.pdf?src-supplier=element14+APAC; ComponentLink1Description: https://datasheet.octopart.com:443/STTH1L06A-STMicroelectronics-datasheet-10836133.pdf?src-supplier=element14+APAC; ComponentLink2URL: https://datasheet.octopart.com:443/STTH1L06A-STMicroelectronics-datasheet-12520326.pdf?src-supplier=TME; ComponentLink2Description: https://datasheet.octopart.com:443/STTH1L06A-STMicroelectronics-datasheet-12520326.pdf?src-supplier=TME; ComponentLink3URL: https://datasheet.octopart.com:443/STTH1L06A-STMicroelectronics-datasheet-40109.pdf?src-supplier=Verical; ComponentLink3Description: https://datasheet.octopart.com:443/STTH1L06A-STMicroelectronics-datasheet-40109.pdf?src-supplier=Verical; ComponentLink4URL: https://datasheet.octopart.com:443/STTH1L06A-STMicroelectronics-datasheet-14054160.pdf?src-supplier=iiiC; ComponentLink4Description: https://datasheet.octopart.com:443/STTH1L06A-STMicroelectronics-datasheet-14054160.pdf?src-supplier=iiiC
footprint SMA
pins: 1 K, 2 A

## STTH2L06A
designator D?
DIODE STANDARD 600V 2A SMA; Manufacturer: STMicroelectronics; Description: HIGH EFFICIENCY ULTRAFAST DIODE Rectifier Diode, 1 Phase, 1 Element, 2A, 600V V(RRM), Silicon; Element Configuration: Single; Forward Voltage: 1.05V; Max Forward Surge Current (Ifsm): 35A; Max Junction Temperature (Tj): 175°C; Number of Elements: 1; Peak Reverse Current: 2µA; Recovery Time: 85ns; Supplier: DigiKey; Supplier Part Number: 497-3549-6-ND; Manufacturer Part Number: STTH2L06A; RoHS: Compliant; Category: Rectifier Diodes; Stock: 9756; Pricing: 1=0.56, 10=0.346, 100=0.2202, 500=0.16544, 1000=0.14776, 2000=0.13287 (USD); Average Rectified Current: 2A; Case/Package: SMA; China RoHS: Non-Compliant; Country of Origin: Mainland China; Current Rating: 2A; Export Control Classification Number (ECCN) Code: EAR99; Forward Current: 2A; Height: 2.03mm; Harmonized Tariff Schedule (HTS) Code: 8541.10.00.80; Introduction Date: 2004-09-07; Length: 4.6mm; Lifecycle Status: Production; Max Operating Temperature: 175°C; Max Output current: 2A; Max Repetitive Reverse Voltage (Vrrm): 600V; Max Reverse Voltage (DC): 600V; Max Surge Current: 35A; Min Operating Temperature: -65°C; Mounting Technology: Surface Mount; Pins: 2; Number of Terminals: 2; Output Current: 2A; Packaging: Tape and Reel; Peak Non-Repetitive Surge Current: 35A; Polarity: Standard; Radiation Hardening: No; REACH SVHC: No; Reverse Recovery Time: 85ns; Reverse Standoff Voltage: 600V; Reverse Voltage: 600V; Schedule B: 8541100080, 8541100080|8541100080|8541100080|8541100080|8541100080; Voltage Rating (DC): 600V; Width: 2.95mm; ComponentLink1URL: https://datasheet.octopart.com:443/STTH2L06A-STMicroelectronics-datasheet-12540759.pdf?src-supplier=Newark; ComponentLink1Description: https://datasheet.octopart.com:443/STTH2L06A-STMicroelectronics-datasheet-12540759.pdf?src-supplier=Newark; ComponentLink2URL: https://datasheet.octopart.com:443/STTH2L06A-STMicroelectronics-datasheet-10836161.pdf?src-supplier=Factory+Futures; ComponentLink2Description: https://datasheet.octopart.com:443/STTH2L06A-STMicroelectronics-datasheet-10836161.pdf?src-supplier=Factory+Futures; ComponentLink3URL: https://datasheet.octopart.com:443/STTH2L06A-STMicroelectronics-datasheet-8103793.pdf?src-supplier=Factory+Futures; ComponentLink3Description: https://datasheet.octopart.com:443/STTH2L06A-STMicroelectronics-datasheet-8103793.pdf?src-supplier=Factory+Futures; ComponentLink4URL: https://datasheet.octopart.com:443/STTH2L06A-STMicroelectronics-datasheet-14054138.pdf?src-supplier=iiiC; ComponentLink4Description: https://datasheet.octopart.com:443/STTH2L06A-STMicroelectronics-datasheet-14054138.pdf?src-supplier=iiiC; ComponentLink5URL: https://datasheet.octopart.com:443/STTH2L06A-STMicroelectronics-datasheet-66230.pdf?src-supplier=DigiKey; ComponentLink5Description: https://datasheet.octopart.com:443/STTH2L06A-STMicroelectronics-datasheet-66230.pdf?src-supplier=DigiKey
footprint SMA
pins: 1 K, 2 A

## STTH3L06S
designator D?
DIODE STANDARD 600V 3A SMC; Manufacturer: STMicroelectronics; Element Configuration: Single; Forward Voltage: 1.05V; Max Forward Surge Current (Ifsm): 60A; Max Junction Temperature (Tj): 175°C; Number of Elements: 1; Peak Reverse Current: 3µA; Recovery Time: 85ns; Supplier: DigiKey; Supplier Part Number: 497-3764-1-ND; Manufacturer Part Number: STTH3L06S; RoHS: Compliant; Category: Rectifier Diodes; Stock: 5324; Pricing: 1=0.58, 10=0.388, 100=0.2869, 500=0.21826, 1000=0.19609 (USD); Average Rectified Current: 3A; Case/Package: SMC; China RoHS: Non-Compliant; Contact Plating: Tin; Country of Origin: Mainland China; Current Rating: 3A; Export Control Classification Number (ECCN) Code: EAR99; Forward Current: 3A; Height: 2.65mm; Harmonized Tariff Schedule (HTS) Code: 8541.10.00.80; Introduction Date: 1980-01-04; Lead Free: Lead Free; Length: 7.15mm; Lifecycle Status: Production; Max Operating Temperature: 175°C; Max Output current: 3A; Max Repetitive Reverse Voltage (Vrrm): 600V; Max Reverse Voltage (DC): 600V; Max Surge Current: 60A; Min Operating Temperature: -65°C; Mounting Technology: Surface Mount; Pins: 2; Number of Terminals: 2; Output Current: 3A; Packaging: Tape and Reel; Peak Non-Repetitive Surge Current: 60A; Polarity: Standard; REACH SVHC: No; Reverse Recovery Time: 85ns; Reverse Standoff Voltage: 600V; Reverse Voltage: 600V; Schedule B: 8541100080, 8541100080|8541100080, 8541100080|8541100080|8541100080, 8541100080|8541100080|8541100080|8541100080; Voltage Rating (DC): 600V; Width: 6.25mm; ComponentLink1URL: https://datasheet.octopart.com:443/STTH3L06S-STMicroelectronics-datasheet-12528355.pdf?src-supplier=IHS; ComponentLink1Description: https://datasheet.octopart.com:443/STTH3L06S-STMicroelectronics-datasheet-12528355.pdf?src-supplier=IHS; ComponentLink2URL: https://datasheet.octopart.com:443/STTH3L06S-STMicroelectronics-datasheet-62337466.pdf?src-supplier=Future+Electronics; ComponentLink2Description: https://datasheet.octopart.com:443/STTH3L06S-STMicroelectronics-datasheet-62337466.pdf?src-supplier=Future+Electronics; ComponentLink3URL: https://datasheet.octopart.com:443/STTH3L06S-STMicroelectronics-datasheet-7549886.pdf?src-supplier=Components+Direct; ComponentLink3Description: https://datasheet.octopart.com:443/STTH3L06S-STMicroelectronics-datasheet-7549886.pdf?src-supplier=Components+Direct; ComponentLink4URL: https://datasheet.octopart.com:443/STTH3L06S-STMicroelectronics-datasheet-8633675.pdf?src-supplier=Jameco; ComponentLink4Description: https://datasheet.octopart.com:443/STTH3L06S-STMicroelectronics-datasheet-8633675.pdf?src-supplier=Jameco; ComponentLink5URL: https://datasheet.octopart.com:443/STTH3L06S-STMicroelectronics-datasheet-39565.pdf?src-supplier=DigiKey; ComponentLink5Description: https://datasheet.octopart.com:443/STTH3L06S-STMicroelectronics-datasheet-39565.pdf?src-supplier=DigiKey
footprint SMC
pins: 1 K, 2 A